# Altium schematic symbol library DRV8424PWPR.SchLib: 1 symbol
Pins are listed as number, name and electrical type; pins without a type are passive.

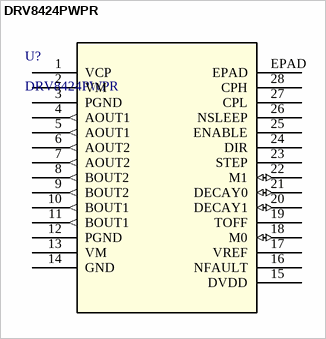
[diagram p0: symbol DRV8424PWPR]

## DRV8424PWPR
designator U?
35-V, 2.5-A bipolar stepper driver with integrated current sensing & 1/256 microstepping 28-HTSSOP -40 to 125; Manufacturer_Name: Texas Instruments; Copyright: Copyright (C) 2025 Ultra Librarian. All rights reserved.; Manufacturer_Part_Number: DRV8424PWPR; Datasheet: https://www.ti.com/lit/gpn/drv8424; RefDes: RefDes; Type: Type
footprint SOIC_24PWPR_TEX
pins: 1 VCP, 2 VM, 3 PGND (power), 4 AOUT1 (out), 5 AOUT1 (out), 6 AOUT2 (out), 7 AOUT2 (out), 8 BOUT2 (out), 9 BOUT2 (out), 10 BOUT1 (out), 11 BOUT1 (out), 12 PGND (power), 13 VM, 14 GND (power), 15 DVDD (power), 16 NFAULT, 17 VREF (power), 18 M0 (io), 19 TOFF, 20 DECAY1 (io), 21 DECAY0 (io), 22 M1 (io), 23 STEP, 24 DIR, 25 ENABLE, 26 NSLEEP, 27 CPL, 28 CPH, EPAD